# EAGLE library part USB4085-GF-A_REVA4 (library USB4085-GF-A_REVA4)
USB 2.0 Type C Receptacle Dip Type, PCB Top Mount Check availability <https://pricing.snapeda.com/parts/USB4085-GF-A/Global%20Connector%20Technology/view-part?ref=eda>
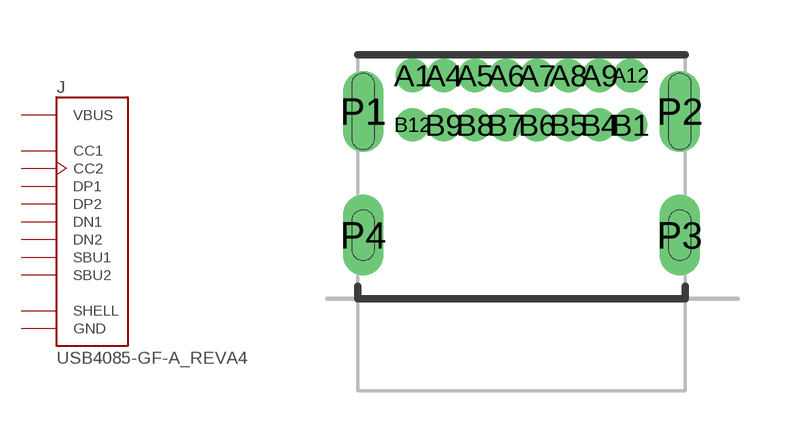
[diagram p0: symbol with the pads of GCT_USB4085-GF-A_REVA4; footprint GCT_USB4085-GF-A_REVA4]

Designator prefix J

## USB4085-GF-A_REVA4 (Availability: In Stock; Description: USB-C (USB TYPE-C) USB 2.0 Receptacle Connector 24 (16+8 Dummy) Position Through Hole, Right Angle, low cost, 3.46mm profile, 16 pin, horizontal, Top mount; MF: Global Connector Technology; MP: USB4085-GF-A; Package: None; Price: None; Purchase-URL: https://pricing.snapeda.com/search/part/USB4085-GF-A/?ref=eda)  [GCT_USB4085-GF-A_REVA4]
A1  GND  pas
A4  VBUS  pwr
A5  CC1
A6  DP1
A7  DN1
A8  SBU1
A9  VBUS  pwr
A12  GND  pas
B1  GND  pas
B4  VBUS  pwr
B5  CC2
B6  DP2
B7  DN2
B8  SBU2
B9  VBUS  pwr
B12  GND  pas
P1  SHELL  pas
P2  SHELL  pas
P3  SHELL  pas
P4  SHELL  pas

## Footprint GCT_USB4085-GF-A_REVA4 (pad centres in mm)
drill 0.4 pad 0.65: A1 -2.975,4.025; A4 -2.125,4.025; A5 -1.275,4.025; A6 -0.425,4.025; A7 0.425,4.025; A8 1.275,4.025; A9 2.125,4.025; A12 2.975,4.025; B1 2.975,2.675; B4 2.125,2.675; B5 1.275,2.675; B6 0.425,2.675; B7 -0.425,2.675; B8 -1.275,2.675; B9 -2.125,2.675; B12 -2.975,2.675
drill 0.6 pad 1.108 long: P1 -4.325,3.045; P2 4.325,3.045; P3 4.325,-0.335; P4 -4.325,-0.335